# Altium footprint library Analog Devices Data Converters Analog-to-Digital Converters.PcbLib: 279 footprints (part 18 of 18)
Each footprint in its own frame and in the unit in brackets; x right, y up, seen from the top. Pads: shape width x height; smd on the part's side, far side on the other; paste and mask are expansions set on the pad; w line width, h text height; cw(c..) or ccw(c..) is an arc to the next point about the centre after c.
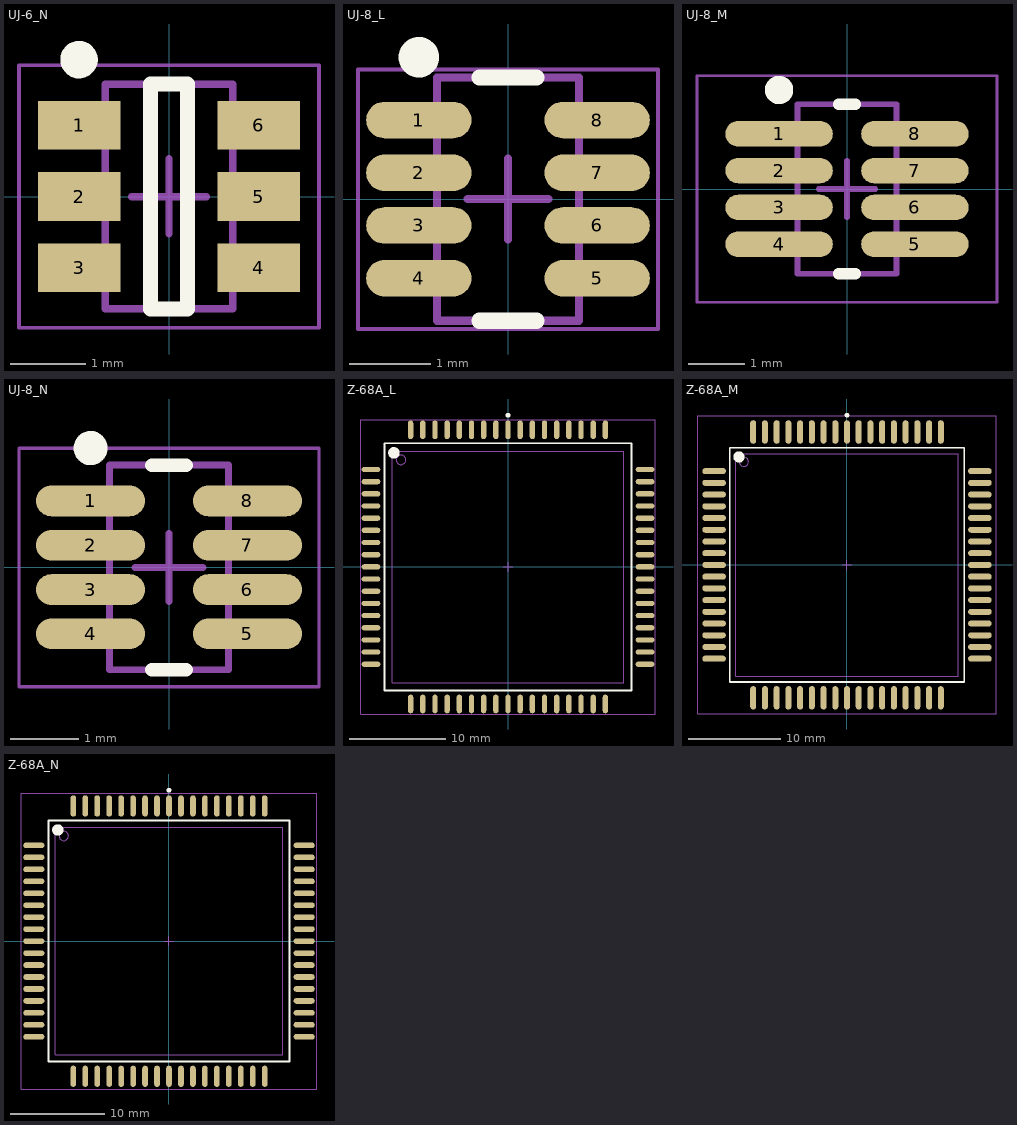
[diagram p17: the footprints below, top view; thin cyan lines are the x and y axes]

## UJ-6_N [mm] "SOT23, 6-Leads, Body 2.9x1.6mm, Pitch 0.95mm, Lead Span 2.8mm, IPC Medium Density"
height 1
pads (6):
  rect 1.1x0.65 smd: 1(-1.2,0.95) 2(-1.2,0) 3(-1.2,-0.95) 4(1.2,-0.95) 5(1.2,0) 6(1.2,0.95)
Top Overlay:
  circle w0.25: c-1.2,1.825 r0.125
  lines w0.2: -0.25,-1.5 0.25,-1.5 0.25,1.5 -0.25,1.5 -0.25,-1.5
Mechanical 13:
  lines w0.1: -0.85,-1.5 -0.85,1.5 0.85,1.5 0.85,-1.5 -0.85,-1.5
Mechanical 15:
  lines w0.05: -2,-1.75 -2,1.75 2,1.75 2,-1.75 -2,-1.75
  lines w0.1: -0.5,0 0.5,0 ; 0,-0.5 0,0.5
3D body: height 1, standoff 0, extent -0.85,-1.5 0.85,1.5

## UJ-8_L [mm] "SOP, 8-Leads, Body 2.9x1.6mm, Pitch 0.65mm, IPC High Density"
height 1
pads (8):
  oval 1.3x0.45 smd: 1(-1.1,0.975) 2(-1.1,0.325) 3(-1.1,-0.325) 4(-1.1,-0.975) 5(1.1,-0.975) 6(1.1,-0.325) 7(1.1,0.325) 8(1.1,0.975)
Top Overlay:
  circle w0.25: c-1.1,1.75 r0.125
  lines w0.2: -0.35,-1.5 0.35,-1.5 ; -0.35,1.5 0.35,1.5
Mechanical 13:
  lines w0.1: -0.875,-1.5 0.875,-1.5 0.875,1.5 -0.875,1.5 -0.875,-1.5
Mechanical 15:
  lines w0.05: -1.85,-1.6 1.85,-1.6 1.85,1.6 -1.85,1.6 -1.85,-1.6
  lines w0.1: -0.5,0 0.5,0 ; 0,-0.5 0,0.5
3D body: height 1, standoff 0, extent -0.875,-1.5 0.875,1.5

## UJ-8_M [mm] "SOP, 8-Leads, Body 2.9x1.6mm, Pitch 0.65mm, IPC Low Density"
height 1
pads (8):
  oval 1.9x0.45 smd: 1(-1.2,0.975) 2(-1.2,0.325) 3(-1.2,-0.325) 4(-1.2,-0.975) 5(1.2,-0.975) 6(1.2,-0.325) 7(1.2,0.325) 8(1.2,0.975)
Top Overlay:
  circle w0.25: c-1.2,1.75 r0.125
  lines w0.2: -0.15,-1.5 0.15,-1.5 ; -0.15,1.5 0.15,1.5
Mechanical 13:
  lines w0.1: -0.875,-1.5 0.875,-1.5 0.875,1.5 -0.875,1.5 -0.875,-1.5
Mechanical 15:
  lines w0.05: -2.65,-2 2.65,-2 2.65,2 -2.65,2 -2.65,-2
  lines w0.1: -0.5,0 0.5,0 ; 0,-0.5 0,0.5
3D body: height 1, standoff 0, extent -0.875,-1.5 0.875,1.5

## UJ-8_N [mm] "SOP, 8-Leads, Body 2.9x1.6mm, Pitch 0.65mm, IPC Medium Density"
height 1
pads (8):
  oval 1.6x0.45 smd: 1(-1.15,0.975) 2(-1.15,0.325) 3(-1.15,-0.325) 4(-1.15,-0.975) 5(1.15,-0.975) 6(1.15,-0.325) 7(1.15,0.325) 8(1.15,0.975)
Top Overlay:
  circle w0.25: c-1.15,1.75 r0.125
  lines w0.2: -0.25,-1.5 0.25,-1.5 ; -0.25,1.5 0.25,1.5
Mechanical 13:
  lines w0.1: -0.875,-1.5 -0.875,1.5 0.875,1.5 0.875,-1.5 -0.875,-1.5
Mechanical 15:
  lines w0.05: -2.2,-1.75 -2.2,1.75 2.2,1.75 2.2,-1.75 -2.2,-1.75
  lines w0.1: -0.5,0 0.5,0 ; 0,-0.5 0,0.5
3D body: height 1, standoff 0, extent -0.875,-1.5 0.875,1.5

## Z-68A_L [mm] "QFP, 68-Leads, Body 24.1x24.1mm, Pitch 1.27mm, IPC High Density"
height 5.97
pads (68):
  oval 0.55x1.95 smd: 1(0,14.3) 2(-1.27,14.3) 3(-2.54,14.3) 4(-3.81,14.3) 5(-5.08,14.3) 6(-6.35,14.3) 7(-7.62,14.3) 8(-8.89,14.3) 9(-10.16,14.3) 27(-10.16,-14.3) 28(-8.89,-14.3) 29(-7.62,-14.3) 30(-6.35,-14.3) 31(-5.08,-14.3) 32(-3.81,-14.3) 33(-2.54,-14.3) 34(-1.27,-14.3) 35(0,-14.3) 36(1.27,-14.3) 37(2.54,-14.3) 38(3.81,-14.3) 39(5.08,-14.3) 40(6.35,-14.3) 41(7.62,-14.3) 42(8.89,-14.3) 43(10.16,-14.3) 61(10.16,14.3) 62(8.89,14.3) 63(7.62,14.3) 64(6.35,14.3) 65(5.08,14.3) 66(3.81,14.3) 67(2.54,14.3) 68(1.27,14.3)
  oval 1.95x0.55 smd: 10(-14.3,10.16) 11(-14.3,8.89) 12(-14.3,7.62) 13(-14.3,6.35) 14(-14.3,5.08) 15(-14.3,3.81) 16(-14.3,2.54) 17(-14.3,1.27) 18(-14.3,0) 19(-14.3,-1.27) 20(-14.3,-2.54) 21(-14.3,-3.81) 22(-14.3,-5.08) 23(-14.3,-6.35) 24(-14.3,-7.62) 25(-14.3,-8.89) 26(-14.3,-10.16) 44(14.3,-10.16) 45(14.3,-8.89) 46(14.3,-7.62) 47(14.3,-6.35) 48(14.3,-5.08) 49(14.3,-3.81) 50(14.3,-2.54) 51(14.3,-1.27) 52(14.3,0) 53(14.3,1.27) 54(14.3,2.54) 55(14.3,3.81) 56(14.3,5.08) 57(14.3,6.35) 58(14.3,7.62) 59(14.3,8.89) 60(14.3,10.16)
Top Overlay:
  circle w0.6: c-11.9,11.9 r0.3
  circle w0.25: c0,15.825 r0.125
  lines w0.2: -12.9,-12.9 12.9,-12.9 12.9,12.9 -12.9,12.9 -12.9,-12.9
Mechanical 13:
  circle w0.1: c-11.165,11.165 r0.5
  lines w0.1: -12.065,-12.065 12.065,-12.065 12.065,12.065 -12.065,12.065 -12.065,-12.065
Mechanical 15:
  lines w0.05: -15.35,-15.35 15.35,-15.35 15.35,15.35 -15.35,15.35 -15.35,-15.35
  lines w0.1: -0.5,0 0.5,0 ; 0,-0.5 0,0.5
3D body: height 5.97, standoff 1.02, extent -12.065,-12.065 12.065,12.065

## Z-68A_M [mm] "QFP, 68-Leads, Body 24.1x24.1mm, Pitch 1.27mm, IPC Low Density"
height 5.97
pads (68):
  oval 0.65x2.55 smd: 1(0,14.4) 2(-1.27,14.4) 3(-2.54,14.4) 4(-3.81,14.4) 5(-5.08,14.4) 6(-6.35,14.4) 7(-7.62,14.4) 8(-8.89,14.4) 9(-10.16,14.4) 27(-10.16,-14.4) 28(-8.89,-14.4) 29(-7.62,-14.4) 30(-6.35,-14.4) 31(-5.08,-14.4) 32(-3.81,-14.4) 33(-2.54,-14.4) 34(-1.27,-14.4) 35(0,-14.4) 36(1.27,-14.4) 37(2.54,-14.4) 38(3.81,-14.4) 39(5.08,-14.4) 40(6.35,-14.4) 41(7.62,-14.4) 42(8.89,-14.4) 43(10.16,-14.4) 61(10.16,14.4) 62(8.89,14.4) 63(7.62,14.4) 64(6.35,14.4) 65(5.08,14.4) 66(3.81,14.4) 67(2.54,14.4) 68(1.27,14.4)
  oval 2.55x0.65 smd: 10(-14.4,10.16) 11(-14.4,8.89) 12(-14.4,7.62) 13(-14.4,6.35) 14(-14.4,5.08) 15(-14.4,3.81) 16(-14.4,2.54) 17(-14.4,1.27) 18(-14.4,0) 19(-14.4,-1.27) 20(-14.4,-2.54) 21(-14.4,-3.81) 22(-14.4,-5.08) 23(-14.4,-6.35) 24(-14.4,-7.62) 25(-14.4,-8.89) 26(-14.4,-10.16) 44(14.4,-10.16) 45(14.4,-8.89) 46(14.4,-7.62) 47(14.4,-6.35) 48(14.4,-5.08) 49(14.4,-3.81) 50(14.4,-2.54) 51(14.4,-1.27) 52(14.4,0) 53(14.4,1.27) 54(14.4,2.54) 55(14.4,3.81) 56(14.4,5.08) 57(14.4,6.35) 58(14.4,7.62) 59(14.4,8.89) 60(14.4,10.16)
Top Overlay:
  circle w0.25: c0,16.225 r0.125
  circle w0.6: c-11.7,11.7 r0.3
  lines w0.2: -12.7,-12.7 -12.7,12.7 12.7,12.7 12.7,-12.7 -12.7,-12.7
Mechanical 13:
  circle w0.1: c-11.165,11.165 r0.5
  lines w0.1: -12.065,-12.065 -12.065,12.065 12.065,12.065 12.065,-12.065 -12.065,-12.065
Mechanical 15:
  lines w0.05: -16.15,-16.15 -16.15,16.15 16.15,16.15 16.15,-16.15 -16.15,-16.15
  lines w0.1: -0.5,0 0.5,0 ; 0,-0.5 0,0.5
3D body: height 5.97, standoff 1.02, extent -12.065,-12.065 12.065,12.065

## Z-68A_N [mm] "QFP, 68-Leads, Body 24.1x24.1mm, Pitch 1.27mm, IPC Medium Density"
height 5.97
pads (68):
  oval 0.6x2.25 smd: 1(0,14.35) 2(-1.27,14.35) 3(-2.54,14.35) 4(-3.81,14.35) 5(-5.08,14.35) 6(-6.35,14.35) 7(-7.62,14.35) 8(-8.89,14.35) 9(-10.16,14.35) 27(-10.16,-14.35) 28(-8.89,-14.35) 29(-7.62,-14.35) 30(-6.35,-14.35) 31(-5.08,-14.35) 32(-3.81,-14.35) 33(-2.54,-14.35) 34(-1.27,-14.35) 35(0,-14.35) 36(1.27,-14.35) 37(2.54,-14.35) 38(3.81,-14.35) 39(5.08,-14.35) 40(6.35,-14.35) 41(7.62,-14.35) 42(8.89,-14.35) 43(10.16,-14.35) 61(10.16,14.35) 62(8.89,14.35) 63(7.62,14.35) 64(6.35,14.35) 65(5.08,14.35) 66(3.81,14.35) 67(2.54,14.35) 68(1.27,14.35)
  oval 2.25x0.6 smd: 10(-14.35,10.16) 11(-14.35,8.89) 12(-14.35,7.62) 13(-14.35,6.35) 14(-14.35,5.08) 15(-14.35,3.81) 16(-14.35,2.54) 17(-14.35,1.27) 18(-14.35,0) 19(-14.35,-1.27) 20(-14.35,-2.54) 21(-14.35,-3.81) 22(-14.35,-5.08) 23(-14.35,-6.35) 24(-14.35,-7.62) 25(-14.35,-8.89) 26(-14.35,-10.16) 44(14.35,-10.16) 45(14.35,-8.89) 46(14.35,-7.62) 47(14.35,-6.35) 48(14.35,-5.08) 49(14.35,-3.81) 50(14.35,-2.54) 51(14.35,-1.27) 52(14.35,0) 53(14.35,1.27) 54(14.35,2.54) 55(14.35,3.81) 56(14.35,5.08) 57(14.35,6.35) 58(14.35,7.62) 59(14.35,8.89) 60(14.35,10.16)
Top Overlay:
  circle w0.6: c-11.8,11.8 r0.3
  circle w0.25: c0,16.025 r0.125
  lines w0.2: -12.8,-12.8 12.8,-12.8 12.8,12.8 -12.8,12.8 -12.8,-12.8
Mechanical 13:
  circle w0.1: c-11.165,11.165 r0.5
  lines w0.1: -12.065,-12.065 12.065,-12.065 12.065,12.065 -12.065,12.065 -12.065,-12.065
Mechanical 15:
  lines w0.05: -15.7,-15.7 15.7,-15.7 15.7,15.7 -15.7,15.7 -15.7,-15.7
  lines w0.1: -0.5,0 0.5,0 ; 0,-0.5 0,0.5
3D body: height 5.97, standoff 1.02, extent -12.065,-12.065 12.065,12.065